# Altium schematic symbol library FT230XQ-R.SchLib: 1 symbol
Pins are listed as number, name and electrical type; pins without a type are passive.

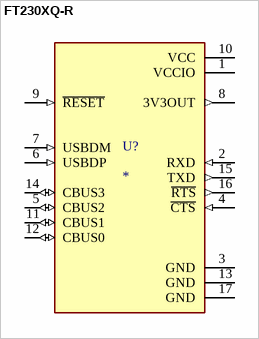
[diagram p0: symbol FT230XQ-R]

## FT230XQ-R
designator U?
FT230X Series 3 Mbaud USB Full Speed to Basic UART IC with USB Charger Detection; MF: FTDI,; MP: FT230XQ-R; SnapEDA_Link: https://www.snapeda.com/parts/FT230XQ-R/FTDI/view-part/?ref=snap; Package: QFN-16 FTDI; Value: *; Check_prices: https://www.snapeda.com/parts/FT230XQ-R/FTDI/view-part/?ref=eda
footprint QFN65P400X400X80-17N
pins: 1 VCCIO (power), 2 RXD (in), 3 GND (power), 4 ~{CTS} (in), 5 CBUS2 (io), 6 USBDP (in), 7 USBDM (in), 8 3V3OUT (out), 9 ~{RESET} (in), 10 VCC (power), 11 CBUS1 (io), 12 CBUS0 (io), 13 GND (power), 14 CBUS3 (io), 15 TXD (out), 16 ~{RTS} (out), 17 GND (power)